# Altium schematic symbol library TMC6100-LA.SchLib: 2 symbols
Pins are listed as number, name and electrical type; pins without a type are passive.

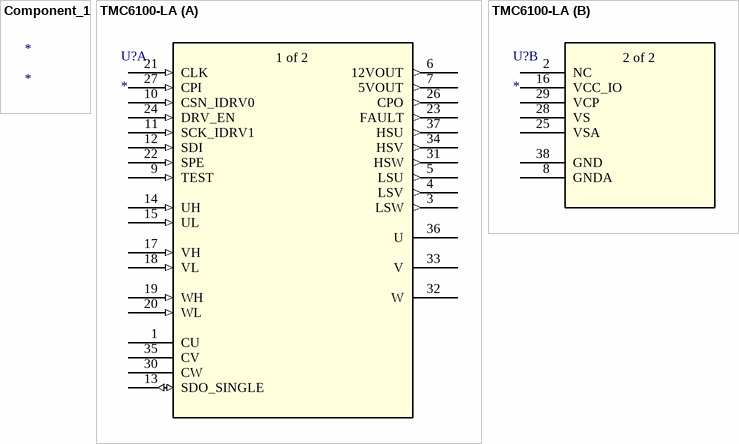
[diagram p0: symbols Component_1 to TMC6100-LA]

## Component_1
designator *

## TMC6100-LA
designator U?
No Description Available; Mfr_Name: Trinamic; RefDes: RefDes; Type: Type
footprint QFN37_7X7_TRI
part A pins: 1 CU, 3 LSW (out), 4 LSV (out), 5 LSU (out), 6 12VOUT (out), 7 5VOUT (out), 9 TEST (in), 10 CSN_IDRV0 (in), 11 SCK_IDRV1 (in), 12 SDI (in), 13 SDO_SINGLE (io), 14 UH (in), 15 UL (in), 17 VH (in), 18 VL (in), 19 WH (in), 20 WL (in), 21 CLK (in), 22 SPE (in), 23 FAULT (out), 24 DRV_EN (in), 26 CPO (out), 27 CPI (in), 30 CW, 31 HSW (out), 32 W, 33 V, 34 HSV (out), 35 CV, 36 U, 37 HSU (out)
part B pins: 2 NC, 8 GNDA (power), 16 VCC_IO (power), 25 VSA (power), 28 VS (power), 29 VCP (power), 38 GND (power)
part A text: 1 of 2
part B text: 2 of 2